# Altium schematic symbol library TPS54561.Schlib: 1 symbol
Pins are listed as number, name and electrical type; pins without a type are passive.

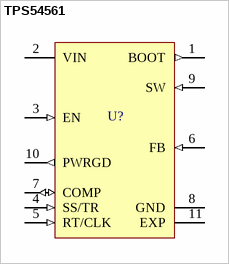
[diagram p0: symbol TPS54561]

## TPS54561
designator U?
4.5-V to 60-V Input, 5-A, Step-Down DC-DC Converter
pins: 1 BOOT (out), 2 VIN (power), 3 EN (in), 4 SS/TR (in), 5 RT/CLK (in), 6 FB (in), 7 COMP (io), 8 GND (power), 9 SW (in), 10 PWRGD (out), 11 EXP (power)